# EAGLE library part SLG46826 (library mylib)
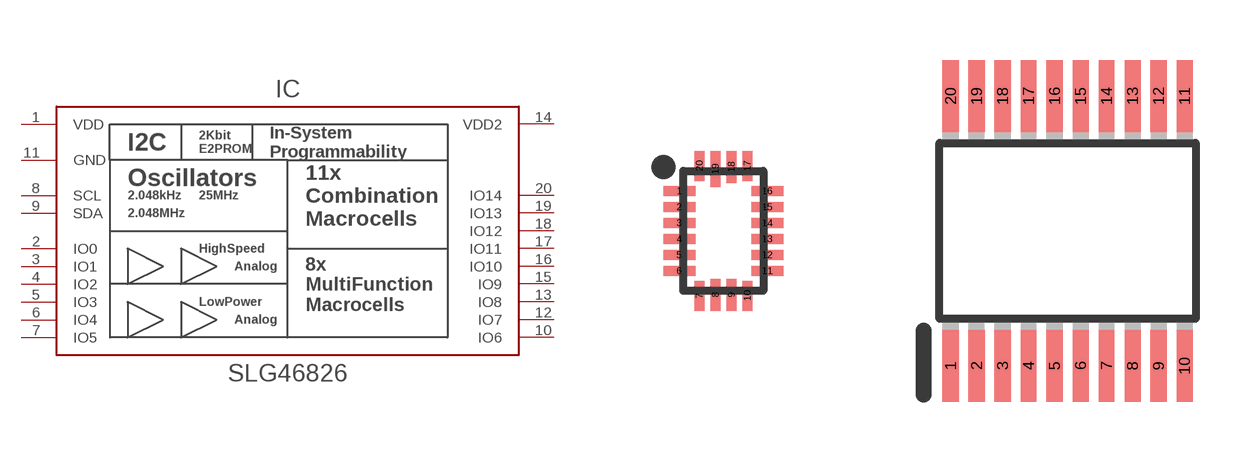
[diagram p125: symbol with the pads of STQFN20-0.4P2.0X3.0; footprints STQFN20-0.4P2.0X3.0, SOT65P650X440-20N]

Designator prefix IC

## SLG46826VTR  [STQFN20-0.4P2.0X3.0]
1  VDD  pwr
2  IO0
3  IO1
4  IO2
5  IO3
6  IO4
7  IO5
8  SCL
9  SDA
10  IO6
11  GND  pwr
12  IO7
13  IO8
14  VDD2  pwr
15  IO9
16  IO10
17  IO11
18  IO12
19  IO13
20  IO14

## SLG46826GTR  [SOT65P650X440-20N]
1  IO14
2  IO13
3  IO12
4  IO11
5  IO10
6  IO9
7  VDD2  pwr
8  IO8
9  IO7
10  GND  pwr
11  IO6
12  SDA
13  SCL
14  IO5
15  IO4
16  IO3
17  IO2
18  IO1
19  IO0
20  VDD  pwr

## Footprint STQFN20-0.4P2.0X3.0 (pad centres in mm)
smd 0.8 x 0.25: 1 -1.1,1; 2 -1.1,0.6; 3 -1.1,0.2; 4 -1.1,-0.2; 5 -1.1,-0.6; 6 -1.1,-1; 11 1.1,-1; 12 1.1,-0.6; 13 1.1,-0.2; 14 1.1,0.2; 15 1.1,0.6; 16 1.1,1
smd 0.25 x 0.75: 7 -0.6,-1.625; 10 0.6,-1.625; 17 0.6,1.625; 20 -0.6,1.625
smd 0.25 x 0.8: 8 -0.2,-1.6; 9 0.2,-1.6; 18 0.2,1.6
smd 0.25 x 0.9: 19 -0.2,1.55

## Footprint SOT65P650X440-20N (pad centres in mm)
smd 0.4 x 1.8: 1 -2.925,-3.375; 2 -2.275,-3.375; 3 -1.625,-3.375; 4 -0.975,-3.375; 5 -0.325,-3.375; 6 0.325,-3.375; 7 0.975,-3.375; 8 1.625,-3.375; 9 2.275,-3.375; 10 2.925,-3.375; 11 2.925,3.375; 12 2.275,3.375; 13 1.625,3.375; 14 0.975,3.375; 15 0.325,3.375; 16 -0.325,3.375; 17 -0.975,3.375; 18 -1.625,3.375; 19 -2.275,3.375; 20 -2.925,3.375